# Altium schematic symbol library OPTOCOUPLE.SchLib: 10 symbols
Pins are listed as number, name and electrical type; pins without a type are passive.

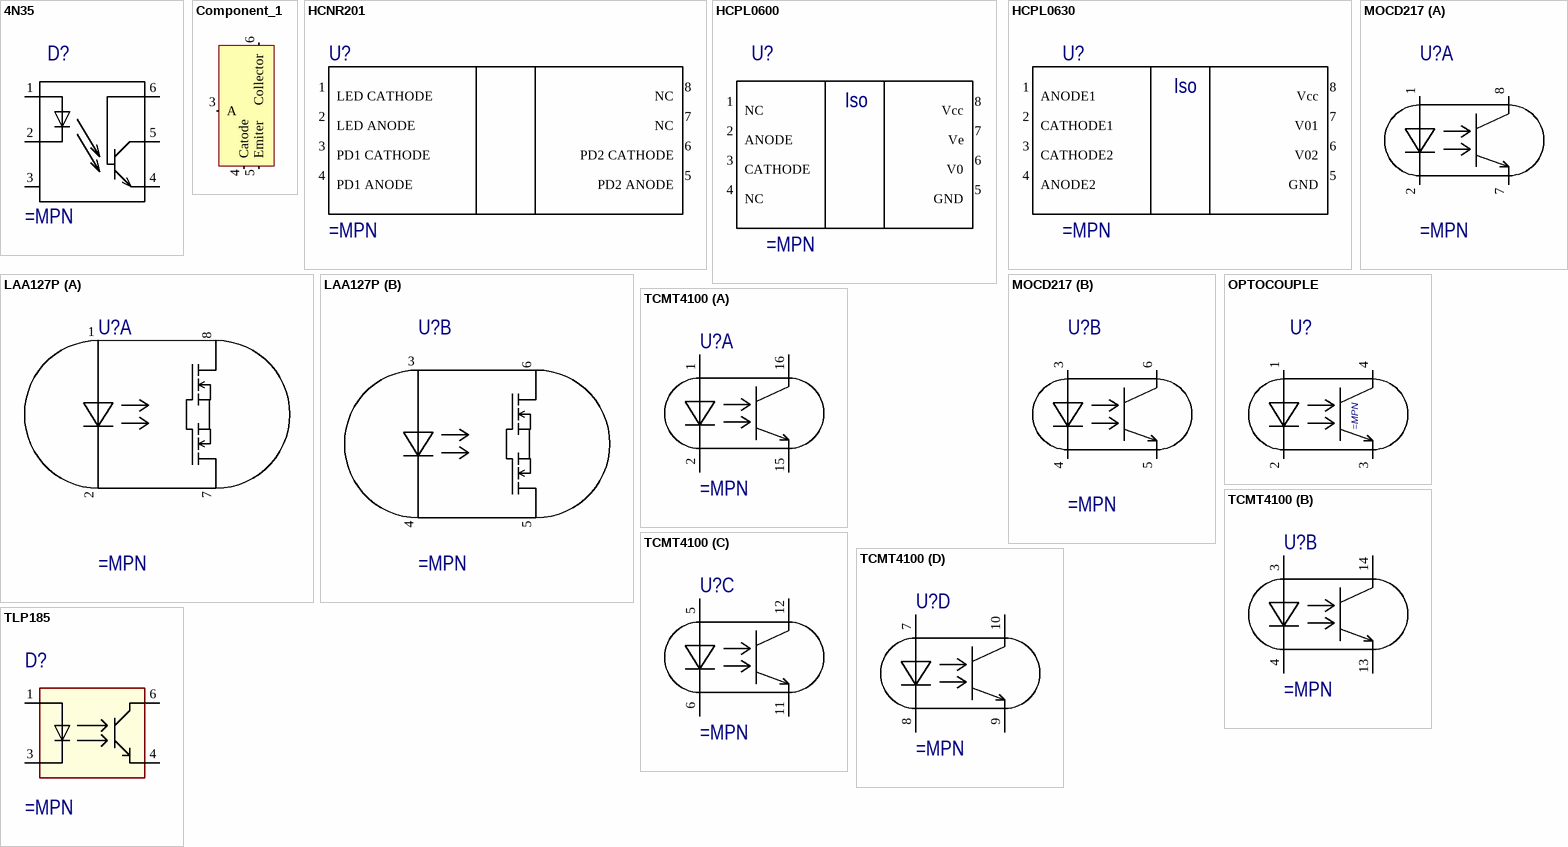
[diagram p0: symbols 4N35 to TLP185]

## 4N35
designator D?
pins: 1, 2, 3, 4, 5, 6

## Component_1
designator *  (value not drawn)
pins: 3 A "Anode", 4 Catode, 5 Emiter, 6 Collector

## HCNR201
designator U?
pins: 1 LED CATHODE "Anode", 2 LED ANODE "Catode", 3 PD1 CATHODE "Catode", 4 PD1 ANODE "Catode", 5 PD2 ANODE "Emiter", 6 PD2 CATHODE "Emiter", 7 NC "Emiter", 8 NC "Collector"

## HCPL0600
designator U?
pins: 1 NC "Anode", 2 ANODE "Catode", 3 CATHODE "Catode", 4 NC "Catode", 5 GND "Emiter", 6 V0 "Emiter", 7 Ve "Emiter", 8 Vcc "Collector"
text: Iso

## HCPL0630
designator U?
pins: 1 ANODE1 "Anode", 2 CATHODE1 "Catode", 3 CATHODE2 "Catode", 4 ANODE2 "Catode", 5 GND "Emiter", 6 V02 "Emiter", 7 V01 "Emiter", 8 Vcc "Collector"
text: Iso

## LAA127P
designator U?
Optocoupler, Phototransistor Output, Quad Channel; ComponentLink1Description: DataSheet; ComponentLink1URL: C:\DATASHEET\OPTOMODUL\tcmt4100.pdf
part A pins: 1 A "Anode", 2 Catode, 7 Emiter, 8 Collector
part B pins: 3 A "Anode", 4 Catode, 5 Emiter, 6 Collector

## MOCD217
designator U?
Optocoupler, Phototransistor Output, Quad Channel; ComponentLink1Description: DataSheet; ComponentLink1URL: C:\DATASHEET\OPTOMODUL\tcmt4100.pdf
part A pins: 1 A "Anode", 2 Catode, 7 Emiter, 8 Collector
part B pins: 3 A "Anode", 4 Catode, 5 Emiter, 6 Collector

## OPTOCOUPLE
designator U?
pins: 1 "Anode", 2 "Cathode", 3 "Emiter", 4 "Collector"
1 alternate drawing of the same symbol

## TCMT4100
designator U?
Optocoupler, Phototransistor Output, Quad Channel; ComponentLink1Description: DataSheet; ComponentLink1URL: C:\DATASHEET\OPTOMODUL\tcmt4100.pdf
part A pins: 1 A "Anode", 2 Catode, 15 Emiter, 16 Collector
part B pins: 3 A "Anode", 4 Catode, 13 Emiter, 14 Collector
part C pins: 5 A "Anode", 6 Catode, 11 Emiter, 12 Collector
part D pins: 7 A "Anode", 8 Catode, 9 Emiter, 10 Collector

## TLP185
designator D?
pins: 1, 3, 4, 6